# EAGLE library part CC430F613X (library gw10)
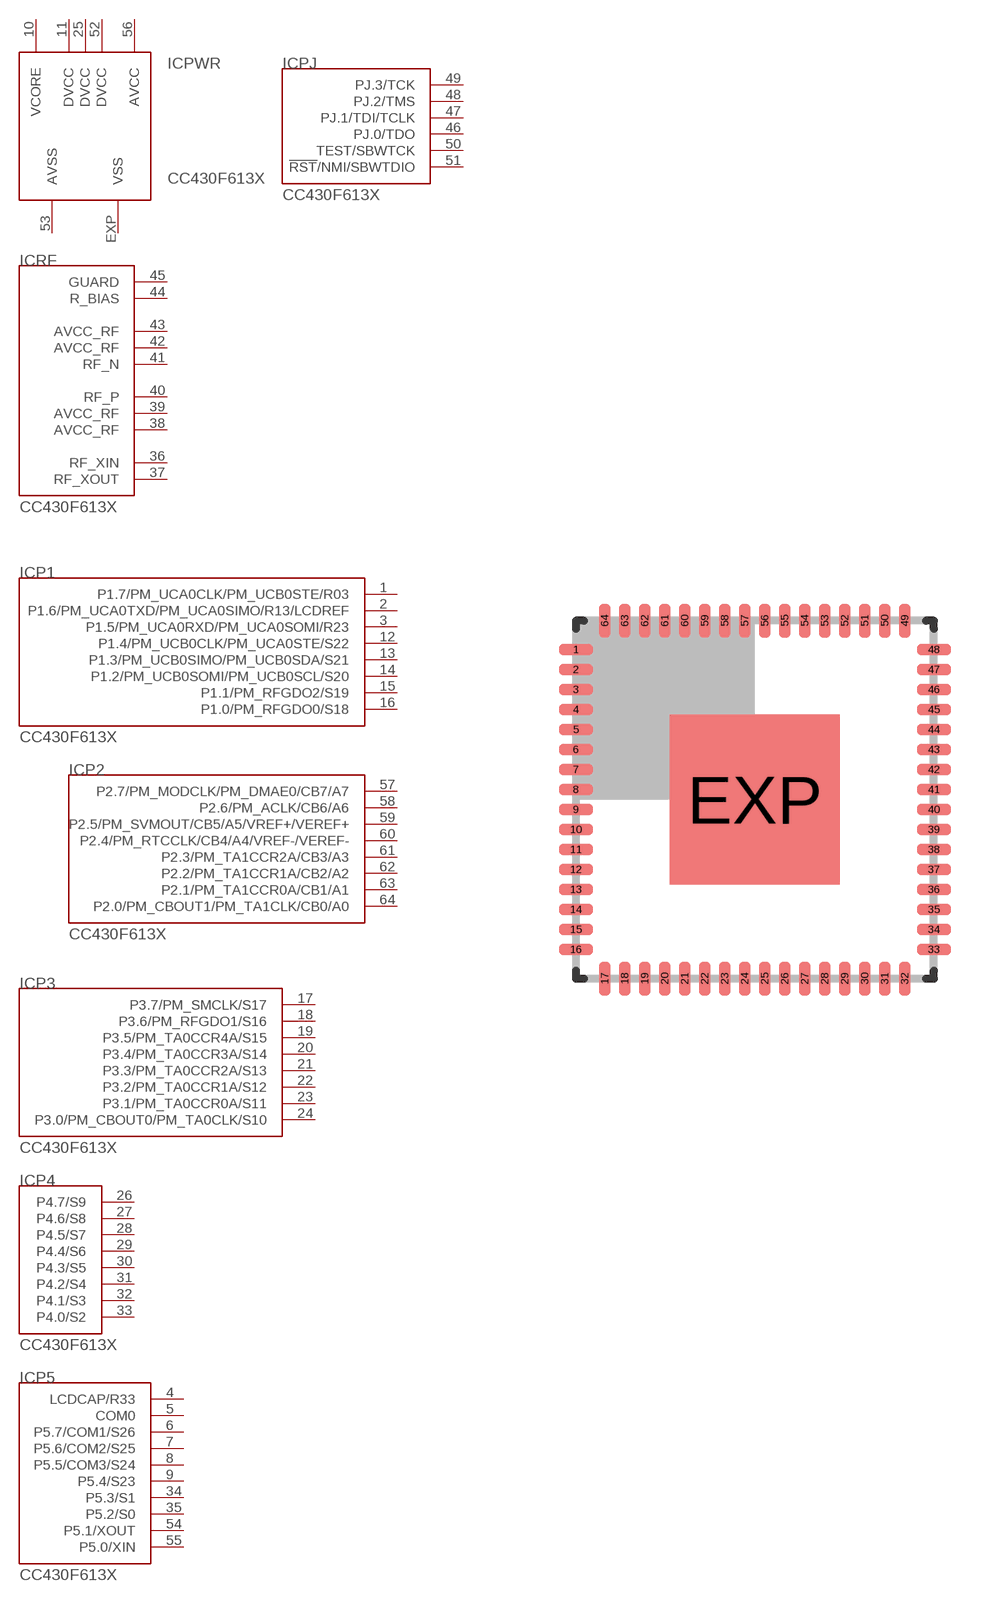
[diagram p0: symbol with the pads of RGC_S-PVQFV-N64; footprint RGC_S-PVQFV-N64]

Designator prefix IC; gates PWR=CC430F613X-POWER PJ=CC430F613X-PJ RF=CC430F613X-RF P1=CC430F613X-P1 P2=CC430F613X-P2 P3=CC430F613X-P3 P4=CC430F613X-P4 P5=CC430F613X-P5

## CC430F613X  [RGC_S-PVQFV-N64]
1  P1:P1.7/PM_UCA0CLK/PM_UCB0STE/R03
2  P1:P1.6/PM_UCA0TXD/PM_UCA0SIMO/R13/LCDREF
3  P1:P1.5/PM_UCA0RXD/PM_UCA0SOMI/R23
4  P5:LCDCAP/R33
5  P5:COM0  out
6  P5:P5.7/COM1/S26
7  P5:P5.6/COM2/S25
8  P5:P5.5/COM3/S24
9  P5:P5.4/S23
10  PWR:VCORE  pwr
11  PWR:DVCC  pwr
12  P1:P1.4/PM_UCB0CLK/PM_UCA0STE/S22
13  P1:P1.3/PM_UCB0SIMO/PM_UCB0SDA/S21
14  P1:P1.2/PM_UCB0SOMI/PM_UCB0SCL/S20
15  P1:P1.1/PM_RFGDO2/S19
16  P1:P1.0/PM_RFGDO0/S18
17  P3:P3.7/PM_SMCLK/S17
18  P3:P3.6/PM_RFGDO1/S16
19  P3:P3.5/PM_TA0CCR4A/S15
20  P3:P3.4/PM_TA0CCR3A/S14
21  P3:P3.3/PM_TA0CCR2A/S13
22  P3:P3.2/PM_TA0CCR1A/S12
23  P3:P3.1/PM_TA0CCR0A/S11
24  P3:P3.0/PM_CBOUT0/PM_TA0CLK/S10
25  PWR:DVCC  pwr
26  P4:P4.7/S9
27  P4:P4.6/S8
28  P4:P4.5/S7
29  P4:P4.4/S6
30  P4:P4.3/S5
31  P4:P4.2/S4
32  P4:P4.1/S3
33  P4:P4.0/S2
34  P5:P5.3/S1
35  P5:P5.2/S0
36  RF:RF_XIN  in
37  RF:RF_XOUT  out
38  RF:AVCC_RF  pwr
39  RF:AVCC_RF  pwr
40  RF:RF_P  out
41  RF:RF_N  out
42  RF:AVCC_RF  pwr
43  RF:AVCC_RF  pwr
44  RF:R_BIAS  out
45  RF:GUARD  pwr
46  PJ:PJ.0/TDO
47  PJ:PJ.1/TDI/TCLK
48  PJ:PJ.2/TMS
49  PJ:PJ.3/TCK
50  PJ:TEST/SBWTCK  in
51  PJ:!RST!/NMI/SBWTDIO
52  PWR:DVCC  pwr
53  PWR:AVSS  pwr
54  P5:P5.1/XOUT
55  P5:P5.0/XIN
56  PWR:AVCC  pwr
57  P2:P2.7/PM_MODCLK/PM_DMAE0/CB7/A7
58  P2:P2.6/PM_ACLK/CB6/A6
59  P2:P2.5/PM_SVMOUT/CB5/A5/VREF+/VEREF+
60  P2:P2.4/PM_RTCCLK/CB4/A4/VREF-/VEREF-
61  P2:P2.3/PM_TA1CCR2A/CB3/A3
62  P2:P2.2/PM_TA1CCR1A/CB2/A2
63  P2:P2.1/PM_TA1CCR0A/CB1/A1
64  P2:P2.0/PM_CBOUT1/PM_TA1CLK/CB0/A0
EXP  PWR:VSS  pwr

## Footprint RGC_S-PVQFV-N64 (pad centres in mm)
RGC(S-PVQFN-N64) CUSTOM DEVICE PASTRIC QUAD FLATPACK NO-LEAD Source: http://focus.ti.com/lit/ds/symlink/msp430f2471.pdf
smd 0.85 x 0.28: 1 -4.475,3.75; 2 -4.475,3.25; 3 -4.475,2.75; 4 -4.475,2.25; 5 -4.475,1.75; 6 -4.475,1.25; 7 -4.475,0.75; 8 -4.475,0.25; 9 -4.475,-0.25; 10 -4.475,-0.75; 11 -4.475,-1.25; 12 -4.475,-1.75; 13 -4.475,-2.25; 14 -4.475,-2.75; 15 -4.475,-3.25; 16 -4.475,-3.75; 33 4.475,-3.75; 34 4.475,-3.25; 35 4.475,-2.75; 36 4.475,-2.25; 37 4.475,-1.75; 38 4.475,-1.25; 39 4.475,-0.75; 40 4.475,-0.25; 41 4.475,0.25; 42 4.475,0.75; 43 4.475,1.25; 44 4.475,1.75; 45 4.475,2.25; 46 4.475,2.75; 47 4.475,3.25; 48 4.475,3.75
smd 0.28 x 0.85: 17 -3.75,-4.475; 18 -3.25,-4.475; 19 -2.75,-4.475; 20 -2.25,-4.475; 21 -1.75,-4.475; 22 -1.25,-4.475; 23 -0.75,-4.475; 24 -0.25,-4.475; 25 0.25,-4.475; 26 0.75,-4.475; 27 1.25,-4.475; 28 1.75,-4.475; 29 2.25,-4.475; 30 2.75,-4.475; 31 3.25,-4.475; 32 3.75,-4.475; 49 3.75,4.475; 50 3.25,4.475; 51 2.75,4.475; 52 2.25,4.475; 53 1.75,4.475; 54 1.25,4.475; 55 0.75,4.475; 56 0.25,4.475; 57 -0.25,4.475; 58 -0.75,4.475; 59 -1.25,4.475; 60 -1.75,4.475; 61 -2.25,4.475; 62 -2.75,4.475; 63 -3.25,4.475; 64 -3.75,4.475
smd 4.25 x 4.25: EXP 0,0